# Altium footprint library CPLD.PcbLib: 4 footprints
Each footprint in its own frame and in the unit in brackets; x right, y up, seen from the top. Pads: shape width x height; smd on the part's side, far side on the other; paste and mask are expansions set on the pad; w line width, h text height; cw(c..) or ccw(c..) is an arc to the next point about the centre after c.
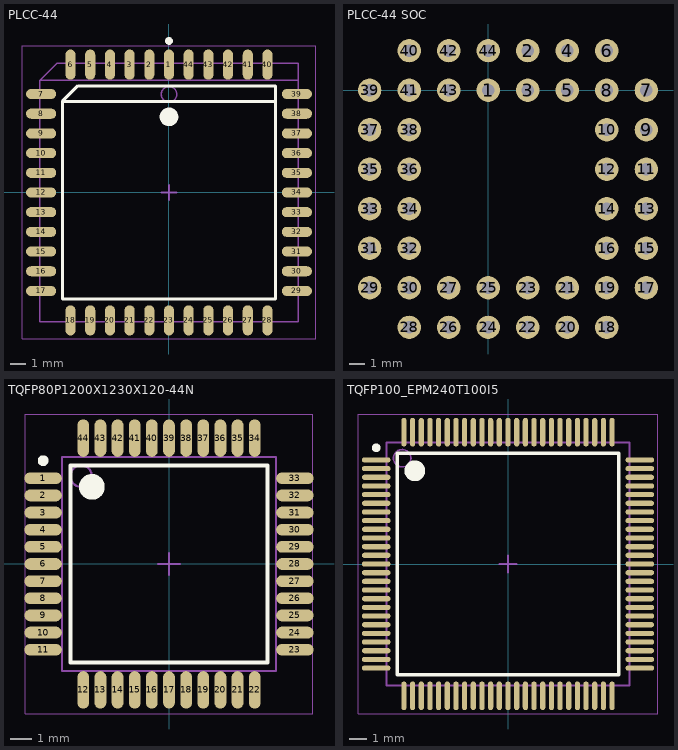
[diagram p0: the footprints below, top view; thin cyan lines are the x and y axes]

## PLCC-44 [mm] "Leaded Chip Carrier, 44-Leads, Body 17,53x17,53mm, Pitch 1,270mm, IPC Medium Density"
height 4.58
pads (44):
  oval 0.65x1.95 smd: 1(0,8.25) 2(-1.27,8.25) 3(-2.54,8.25) 4(-3.81,8.25) 5(-5.08,8.25) 6(-6.35,8.25) 18(-6.35,-8.25) 19(-5.08,-8.25) 20(-3.81,-8.25) 21(-2.54,-8.25) 22(-1.27,-8.25) 23(0,-8.25) 24(1.27,-8.25) 25(2.54,-8.25) 26(3.81,-8.25) 27(5.08,-8.25) 28(6.35,-8.25) 40(6.35,8.25) 41(5.08,8.25) 42(3.81,8.25) 43(2.54,8.25) 44(1.27,8.25)
  oval 1.95x0.65 smd: 7(-8.25,6.35) 8(-8.25,5.08) 9(-8.25,3.81) 10(-8.25,2.54) 11(-8.25,1.27) 12(-8.25,0) 13(-8.25,-1.27) 14(-8.25,-2.54) 15(-8.25,-3.81) 16(-8.25,-5.08) 17(-8.25,-6.35) 29(8.25,-6.35) 30(8.25,-5.08) 31(8.25,-3.81) 32(8.25,-2.54) 33(8.25,-1.27) 34(8.25,0) 35(8.25,1.27) 36(8.25,2.54) 37(8.25,3.81) 38(8.25,5.08) 39(8.25,6.35)
Top Overlay:
  circle w0.6: c0,4.875 r0.3
  circle w0.25: c0,9.775 r0.125
  lines w0.2: 6.875,5.875 -6.875,5.875 ; -6.875,5.875 -6.875,-6.875 6.875,-6.875 6.875,6.875 -5.875,6.875 -6.875,5.875
Mechanical 13:
  circle w0.1: c0,6.33 r0.5
  lines w0.1: 8.33,7.23 -8.33,7.23 ; -8.33,7.23 -7.23,8.33 8.33,8.33 8.33,-8.33 -8.33,-8.33 -8.33,7.23
Mechanical 15:
  lines w0.05: -9.45,-9.45 9.45,-9.45 9.45,9.45 -9.45,9.45 -9.45,-9.45
  lines w0.1: -0.5,0 0.5,0 ; 0,-0.5 0,0.5
3D body "PLCC127P1753X1753X457-44N.step": height 4.57, standoff 0, extent -8.963,-8.963 8.963,8.963

## PLCC-44 SOC [mm]
height 6.5
pads (44):
  round 1.5 hole 0.8: 1(0,0) 2(2.54,2.54) 3(2.54,0) 4(5.08,2.54) 5(5.08,0) 6(7.62,2.54) 7(10.16,0) 8(7.62,0) 9(10.16,-2.54) 10(7.62,-2.54) 11(10.16,-5.08) 12(7.62,-5.08) 13(10.16,-7.62) 14(7.62,-7.62) 15(10.16,-10.16) 16(7.62,-10.16) 17(10.16,-12.7) 18(7.62,-15.24) 19(7.62,-12.7) 20(5.08,-15.24) 21(5.08,-12.7) 22(2.54,-15.24) 23(2.54,-12.7) 24(0,-15.24) 25(0,-12.7) 26(-2.54,-15.24) 27(-2.54,-12.7) 28(-5.08,-15.24) 29(-7.62,-12.7) 30(-5.08,-12.7) 31(-7.62,-10.16) 32(-5.08,-10.16) 33(-7.62,-7.62) 34(-5.08,-7.62) 35(-7.62,-5.08) 36(-5.08,-5.08) 37(-7.62,-2.54) 38(-5.08,-2.54) 39(-7.62,0) 40(-5.08,2.54) 41(-5.08,0) 42(-2.54,2.54) 43(-2.54,0) 44(0,2.54)

## TQFP80P1200X1230X120-44N [mm] "TQFP, 44-Leads, Body 10,00x10,00mm, Pitch 0,80mm, IPC Medium Density"
height 1.2
pads (44):
  oval 1.75x0.55 smd: 1(-5.875,4) 2(-5.875,3.2) 3(-5.875,2.4) 4(-5.875,1.6) 5(-5.875,0.8) 6(-5.875,0) 7(-5.875,-0.8) 8(-5.875,-1.6) 9(-5.875,-2.4) 10(-5.875,-3.2) 11(-5.875,-4) 23(5.875,-4) 24(5.875,-3.2) 25(5.875,-2.4) 26(5.875,-1.6) 27(5.875,-0.8) 28(5.875,0) 29(5.875,0.8) 30(5.875,1.6) 31(5.875,2.4) 32(5.875,3.2) 33(5.875,4)
  oval 0.55x1.75 smd: 12(-4,-5.875) 13(-3.2,-5.875) 14(-2.4,-5.875) 15(-1.6,-5.875) 16(-0.8,-5.875) 17(0,-5.875) 18(0.8,-5.875) 19(1.6,-5.875) 20(2.4,-5.875) 21(3.2,-5.875) 22(4,-5.875) 34(4,5.875) 35(3.2,5.875) 36(2.4,5.875) 37(1.6,5.875) 38(0.8,5.875) 39(0,5.875) 40(-0.8,5.875) 41(-1.6,5.875) 42(-2.4,5.875) 43(-3.2,5.875) 44(-4,5.875)
Top Overlay:
  circle w0.6: c-3.6,3.6 r0.3
  circle w0.25: c-5.875,4.825 r0.125
  lines w0.2: -4.6,-4.6 4.6,-4.6 4.6,4.6 -4.6,4.6 -4.6,-4.6
Mechanical 13:
  circle w0.1: c-4.1,4.1 r0.5
  lines w0.1: -5,-5 5,-5 5,5 -5,5 -5,-5
Mechanical 15:
  lines w0.05: -6.7,-7 6.7,-7 6.7,7 -6.7,7 -6.7,-7
  lines w0.1: -0.5,0 0.5,0 ; 0,-0.5 0,0.5
3D body "TQFP80P1200X1230X120-44N.step": height 1.2, standoff 0, extent -6,-6.15 6,6.15

## TQFP100_EPM240T100I5 [mm] "TSQFP, 100-Leads, Body 14,00x14,00mm, Pitch 0,50mm, IPC Medium Density"
height 1.2
pads (100):
  oval 1.65x0.3 smd: 1(-7.6,6) 2(-7.6,5.5) 3(-7.6,5) 4(-7.6,4.5) 5(-7.6,4) 6(-7.6,3.5) 7(-7.6,3) 8(-7.6,2.5) 9(-7.6,2) 10(-7.6,1.5) 11(-7.6,1) 12(-7.6,0.5) 13(-7.6,0) 14(-7.6,-0.5) 15(-7.6,-1) 16(-7.6,-1.5) 17(-7.6,-2) 18(-7.6,-2.5) 19(-7.6,-3) 20(-7.6,-3.5) 21(-7.6,-4) 22(-7.6,-4.5) 23(-7.6,-5) 24(-7.6,-5.5) 25(-7.6,-6) 51(7.6,-6) 52(7.6,-5.5) 53(7.6,-5) 54(7.6,-4.5) 55(7.6,-4) 56(7.6,-3.5) 57(7.6,-3) 58(7.6,-2.5) 59(7.6,-2) 60(7.6,-1.5) 61(7.6,-1) 62(7.6,-0.5) 63(7.6,0) 64(7.6,0.5) 65(7.6,1) 66(7.6,1.5) 67(7.6,2) 68(7.6,2.5) 69(7.6,3) 70(7.6,3.5) 71(7.6,4) 72(7.6,4.5) 73(7.6,5) 74(7.6,5.5) 75(7.6,6)
  oval 0.3x1.65 smd: 26(-6,-7.6) 27(-5.5,-7.6) 28(-5,-7.6) 29(-4.5,-7.6) 30(-4,-7.6) 31(-3.5,-7.6) 32(-3,-7.6) 33(-2.5,-7.6) 34(-2,-7.6) 35(-1.5,-7.6) 36(-1,-7.6) 37(-0.5,-7.6) 38(0,-7.6) 39(0.5,-7.6) 40(1,-7.6) 41(1.5,-7.6) 42(2,-7.6) 43(2.5,-7.6) 44(3,-7.6) 45(3.5,-7.6) 46(4,-7.6) 47(4.5,-7.6) 48(5,-7.6) 49(5.5,-7.6) 50(6,-7.6) 76(6,7.6) 77(5.5,7.6) 78(5,7.6) 79(4.5,7.6) 80(4,7.6) 81(3.5,7.6) 82(3,7.6) 83(2.5,7.6) 84(2,7.6) 85(1.5,7.6) 86(1,7.6) 87(0.5,7.6) 88(0,7.6) 89(-0.5,7.6) 90(-1,7.6) 91(-1.5,7.6) 92(-2,7.6) 93(-2.5,7.6) 94(-3,7.6) 95(-3.5,7.6) 96(-4,7.6) 97(-4.5,7.6) 98(-5,7.6) 99(-5.5,7.6) 100(-6,7.6)
Top Overlay:
  circle w0.25: c-7.6,6.7 r0.125
  circle w0.6: c-5.375,5.375 r0.3
  lines w0.2: -6.375,-6.375 -6.375,6.375 6.375,6.375 6.375,-6.375 -6.375,-6.375
Mechanical 13:
  circle w0.1: c-6.1,6.1 r0.5
  lines w0.1: -7,-7 -7,7 7,7 7,-7 -7,-7
Mechanical 15:
  lines w0.05: -8.65,-8.65 -8.65,8.65 8.65,8.65 8.65,-8.65 -8.65,-8.65
  lines w0.1: -0.5,0 0.5,0 ; 0,-0.5 0,0.5
3D body: height 1.2, standoff 0.05, extent -7,-7 7,7